# Altium footprint library PcbLib1.PcbLib: 5 footprints
Each footprint in its own frame and in the unit in brackets; x right, y up, seen from the top. Pads: shape width x height; smd on the part's side, far side on the other; paste and mask are expansions set on the pad; w line width, h text height; cw(c..) or ccw(c..) is an arc to the next point about the centre after c.
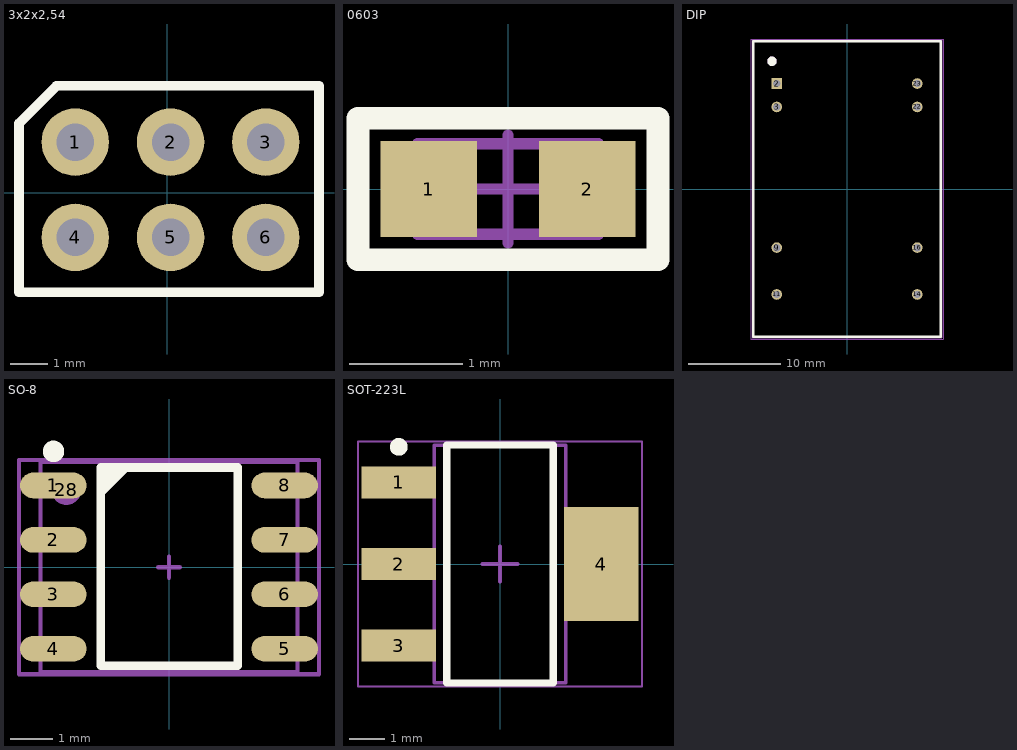
[diagram p0: the footprints below, top view; thin cyan lines are the x and y axes]

## 3x2x2,54 [mm]
pads (6):
  round 1.8 hole 1: 1(-2.45,1.35) 2(0.09,1.35) 3(2.63,1.35) 4(-2.45,-1.19) 5(0.09,-1.19) 6(2.63,-1.19)
Top Overlay:
  lines w0.254: -3.95,-2.65 4.05,-2.65 4.05,2.85 -2.95,2.85 -3.95,1.85 -3.95,-2.65

## 0603 [mm]
pads (2):
  rect 0.85x0.85 smd: 1(-0.7,0) 2(0.7,0)
Top Overlay:
  lines w0.2: -1.325,-0.625 -1.325,0.625 1.325,0.625 1.325,-0.625 -1.325,-0.625
Mechanical 1:
  lines w0.1: -0.8,-0.4 -0.8,0.4 0.8,0.4 0.8,-0.4 -0.8,-0.4
Mechanical 15:
  lines w0.1: -0.475,0 0.475,0 ; 0,-0.475 0,0.475 ; -1.325,-0.625 1.325,-0.625 1.325,0.625 -1.325,0.625 -1.325,-0.625
3D body "SW3dPS-0603 SMD Capacitor.STEP": height 0.3, standoff 0, extent -0.8,-0.4 0.8,0.4

## DIP [mm]
pads (8):
  rect 1.15x1.15 hole 0.8: 2(-7.62,11.43)
  round 1.15 hole 0.8: 3(-7.62,8.89) 9(-7.62,-6.35) 11(-7.62,-11.43) 14(7.62,-11.43) 16(7.62,-6.35) 22(7.62,8.89) 23(7.62,11.43)
Top Overlay:
  circle w0.6: c-8.128,13.843 r0.2
  lines w0.254: -10.16,-16.002 -10.16,16.002 10.16,16.002 10.16,-16.002 -10.16,-16.002
Mechanical 13:
  circle w0.6: c-8.128,13.843 r0.2
  lines w0.127: -10.287,-16.129 10.287,-16.129 10.287,16.129 -10.287,16.129 -10.287,-16.129
Mechanical 15:
  lines w0.05: -10.414,-16.256 10.414,-16.256 10.414,16.256 -10.414,16.256 -10.414,-16.256

## SO-8 [mm]
pads (9):
  rrect100% 1.55x0.6 smd: 1(-2.7,1.905) 2(-2.7,0.635) 3(-2.7,-0.635) 4(-2.7,-1.905) 5(2.7,-1.905) 6(2.7,-0.635) 7(2.7,0.635) 8(2.7,1.905)
  round 0.7 on Mech1: 28(-2.395,1.8)
Top Overlay:
  circle w0.25: c-2.695,2.7 r0.125
  region: -1.595,2.325 -1.595,1.605 -0.875,2.325
  lines w0.2: -1.595,-2.3 1.605,-2.3 1.605,2.325 -1.595,2.325 -1.595,-2.3
Mechanical 1:
  lines w0.1: -3,-2.45 -3,2.45 3,2.45 3,-2.45 -3,-2.45
Mechanical 15:
  lines w0.1: -0.25,0 0.25,0 ; 0,-0.25 0,0.25 ; -3.5,-2.5 -3.5,2.5 3.5,2.5 3.5,-2.5 -3.5,-2.5
3D body "User Library-SOIC-8-1.STEP": height 1.75, standoff 0, extent -3,-2.45 3,2.45

## SOT-223L [mm]
pads (4):
  rect 2.1x0.9 smd: 1(-2.85,2.3) 2(-2.85,0) 3(-2.85,-2.3)
  rect 2.1x3.2 smd: 4(2.85,0)
Top Overlay:
  circle w0.25: c-2.85,3.3 r0.125
  lines w0.2: -1.5,-3.35 -1.5,3.35 1.5,3.35 1.5,-3.35 -1.5,-3.35
Mechanical 13:
  lines w0.1: -1.85,-3.35 -1.85,3.35 1.85,3.35 1.85,-3.35 -1.85,-3.35
Mechanical 15:
  lines w0.05: -4,-3.45 -4,3.45 4,3.45 4,-3.45 -4,-3.45
  lines w0.1: -0.5,0 0.5,0 ; 0,-0.5 0,0.5
3D body: height 1.8, standoff 0.02, extent -1.85,-3.35 1.85,3.35